# Altium schematic symbol library SCH - POWER - SWITCHMODE - TI TPS65101_RGE_24.SchLib: 1 symbol
Pins are listed as number, name and electrical type; pins without a type are passive.

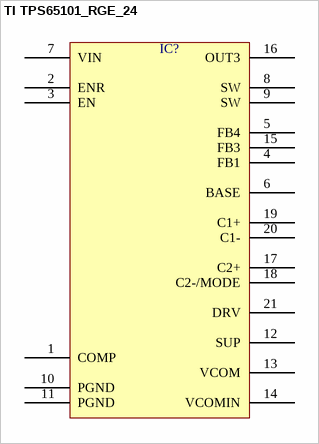
[diagram p0: symbol TI TPS65101_RGE_24]

## TI TPS65101_RGE_24
designator IC?  (value not drawn)
pins: 1 COMP, 2 ENR, 3 EN, 4 FB1, 5 FB4, 6 BASE, 7 VIN, 8 SW, 9 SW, 10 PGND, 11 PGND, 12 SUP, 13 VCOM, 14 VCOMIN, 15 FB3, 16 OUT3, 17 C2+, 18 C2-/MODE, 19 C1+, 20 C1-, 21 DRV